# Altium footprint library XB324Z8UTJ.PcbLib: 1 footprints
Each footprint in its own frame and in the unit in brackets; x right, y up, seen from the top. Pads: shape width x height; smd on the part's side, far side on the other; paste and mask are expansions set on the pad; w line width, h text height; cw(c..) or ccw(c..) is an arc to the next point about the centre after c.
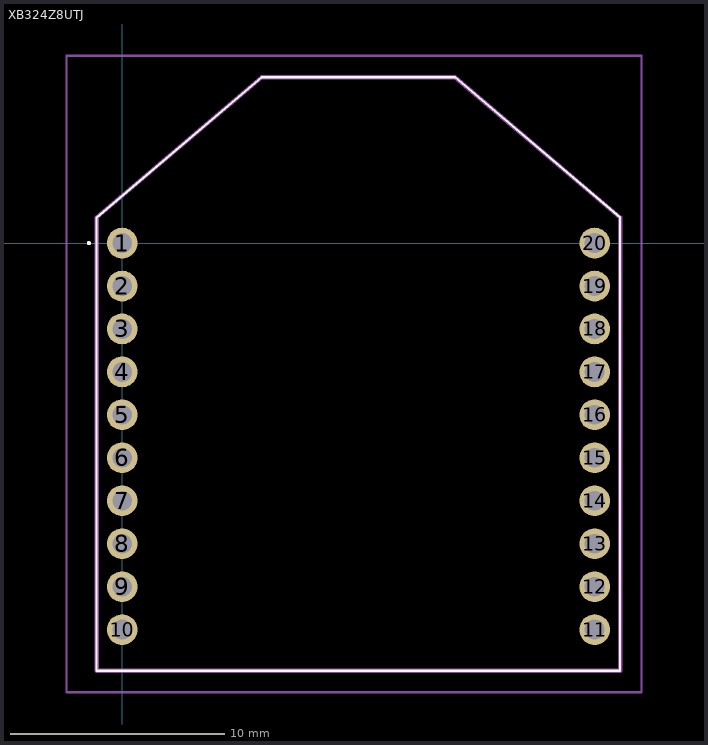
[diagram p0: the footprint, top view; thin cyan lines are the x and y axes]

## XB324Z8UTJ [mm]
pads (20):
  round 1.431 hole 0.92: 1(0,0) 2(0,-2) 3(0,-4) 4(0,-6) 5(0,-8) 6(0,-10) 7(0,-12) 8(0,-14) 9(0,-16) 10(0,-18) 11(22,-18) 12(22,-16) 13(22,-14) 14(22,-12) 15(22,-10) 16(22,-8) 17(22,-6) 18(22,-4) 19(22,-2) 20(22,0)
Top Overlay:
  lines w0.1: -1.6,0 cw(c-1.55,0) -1.5,0 ; -1.6,0 -1.6,0 ; -1.6,0 ccw(c-1.55,0) -1.5,0 ; -1.5,0 -1.5,0 ; -1.19,-19.914 -1.19,1.19 6.5,7.72 15.5,7.72 23.19,1.19 23.19,-19.914 -1.19,-19.914
Mechanical 15:
  lines w0.2: -1.19,-19.914 -1.19,1.19 6.5,7.72 15.5,7.72 23.19,1.19 23.19,-19.914 -1.19,-19.914
Mechanical 20:
  lines w0.1: -2.6,-20.914 24.19,-20.914 24.19,8.72 -2.6,8.72 -2.6,-20.914